# Altium footprint library 遥控.PcbLib: 4 footprints
Each footprint in its own frame and in the unit in brackets; x right, y up, seen from the top. Pads: shape width x height; smd on the part's side, far side on the other; paste and mask are expansions set on the pad; w line width, h text height; cw(c..) or ccw(c..) is an arc to the next point about the centre after c.
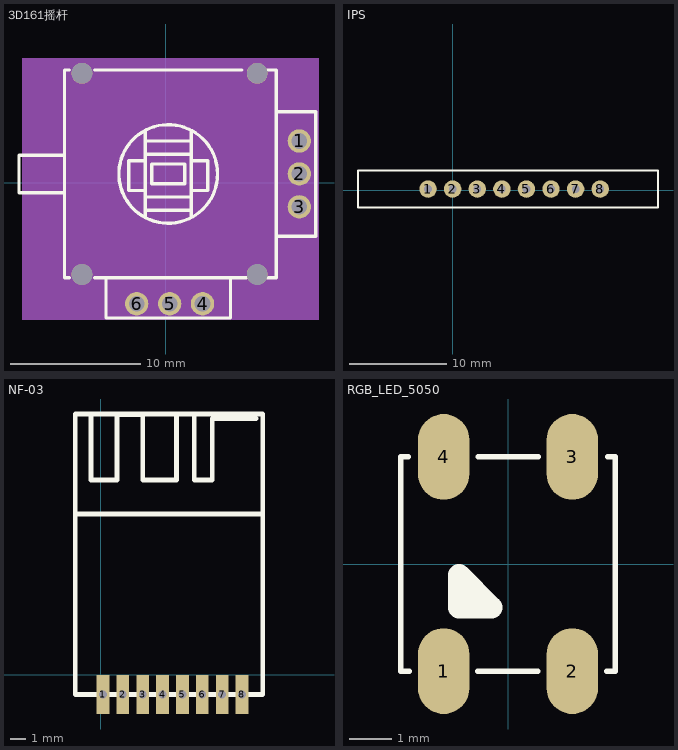
[diagram p0: the footprints below, top view; thin cyan lines are the x and y axes]

## 3D161摇杆 [mm]
pads (10):
  round 1.8 hole 1.2: 1(10.298,3.226) 2(10.298,0.686) 3(10.298,-1.854) 4(2.838,-9.314) 5(0.298,-9.314) 6(-2.242,-9.314)
  round 1.6 hole 1.6 unplated: ""(-6.453,-7.063) ""(-6.453,8.436) ""(7.048,-7.063) ""(7.048,8.436)
Top Overlay:
  circle w0.254: c0.197,0.686 r3.8
  lines w0.254: -7.803,-7.315 -7.803,8.685 -7.414,8.686 ; -7.803,-7.313 -7.414,-7.313 ; -7.803,-0.764 -11.303,-0.764 -11.303,2.136 -7.803,2.136 ; -5.492,-7.313 6.223,-7.313 ; -5.492,8.686 5.886,8.686 ; -4.603,-7.314 -4.603,-10.414 4.997,-10.414 4.997,-7.314 ; -1.581,-2.616 -1.581,3.988 ; -1.581,-2.108 1.975,-2.108 ; -1.581,-1.092 1.975,-1.092 ; -1.581,-0.584 -2.851,-0.584 -2.851,1.702 -1.581,1.702 ; -1.581,2.21 1.975,2.21 ; -1.581,3.226 1.975,3.226 ; 1.975,-2.616 1.975,3.988 ; 1.975,-0.584 3.245,-0.584 3.245,-0.33 3.245,1.702 1.975,1.702 ; 7.808,-7.313 8.509,-7.313 8.509,8.686 7.807,8.686 ; 8.509,-4.114 11.557,-4.114 11.557,5.486 8.509,5.486 ; -1.073,-0.076 1.467,-0.076 1.467,1.448 -1.073,1.448 -1.073,-0.076
Mechanical 4:
  circle w0.8: c6.847,8.436 r0.4
  circle w0.8: c6.847,-7.063 r0.4
  circle w0.8: c-6.453,8.436 r0.4
  circle w0.8: c-6.453,-7.063 r0.4
  region: -11.043,9.591 11.811,9.591 11.811,-10.541 -11.043,-10.541
Mechanical 5:
  circle w0.127: c6.847,8.436 r0.8
  circle w0.127: c6.847,-7.063 r0.8
  circle w0.127: c-6.453,8.436 r0.8
  circle w0.127: c-6.453,-7.063 r0.8
  region: -3.243,-8.165 -1.443,-8.165 -1.443,-9.965 -3.243,-9.965
  region: -0.703,-8.165 1.097,-8.165 1.097,-9.965 -0.703,-9.965
  region: 1.837,-8.165 3.637,-8.165 3.637,-9.965 1.837,-9.965
  region: 9.048,-0.954 10.848,-0.954 10.848,-2.754 9.048,-2.754
  region: 9.048,1.586 10.848,1.586 10.848,-0.214 9.048,-0.214
  region: 9.048,4.126 10.848,4.126 10.848,2.326 9.048,2.326
Mechanical 15:
  lines w0.003: -0.028,0.032 0.022,0.083

## IPS [mm]
pads (8):
  round 1.8 hole 0.8: 1(-2.54,0.127) 2(0,0.127) 3(2.54,0.127) 4(5.08,0.127) 5(7.62,0.127) 6(10.16,0.127) 7(12.7,0.127) 8(15.24,0.127)
Top Overlay:
  lines w0.2: -9.779,-1.778 21.209,-1.778 21.209,2.046 -9.779,2.046 -9.779,-1.778

## NF-03 [mm]
pads (8):
  rect 0.813x2.5 hole 0.5 square: 1(0.127,-1.27) 2(1.397,-1.27) 3(2.667,-1.27) 4(3.937,-1.27) 5(5.207,-1.27) 6(6.477,-1.27) 7(7.747,-1.27) 8(9.017,-1.27)
Top Overlay:
  lines w0.305: -1.499,10.262 10.349,10.262 ; -0.635,16.51 -0.635,12.446 1.016,12.446 1.016,16.51 1.143,16.637 2.667,16.637 2.667,12.446 4.826,12.446 4.826,16.637 ; 5.969,16.51 5.969,12.446 7.112,12.446 7.112,16.383 9.906,16.383 ; 10.349,10.262 10.349,-1.27 -1.651,-1.27 -1.651,16.665 10.349,16.665 10.349,10.262

## RGB_LED_5050 [mm]
pads (4):
  oval 1.2x2 smd: 1(-1.5,-2.5) 2(1.5,-2.5) 3(1.5,2.5) 4(-1.5,2.5)
Top Overlay:
  lines w0.127: -2.326,2.5 -2.5,2.5 -2.5,-2.5 -2.3,-2.5 ; -0.711,-2.5 0.697,-2.5 ; -0.697,2.5 0.711,2.5 ; 2.3,-2.5 2.5,-2.5 2.5,2.5 2.326,2.5
  lines w0.508: -1.143,-1.016 -0.381,-1.016 -1.143,-0.254 -1.143,-1.016
3D body "User Library-ws2812B-1White.STEP": height 1.55, standoff -0.02, extent -2.5,-2.7 2.5,2.7